# Altium schematic symbol library kmilo17pet-NSC_Amplifier.SchLib: 1665 symbols (part 28 of 44)
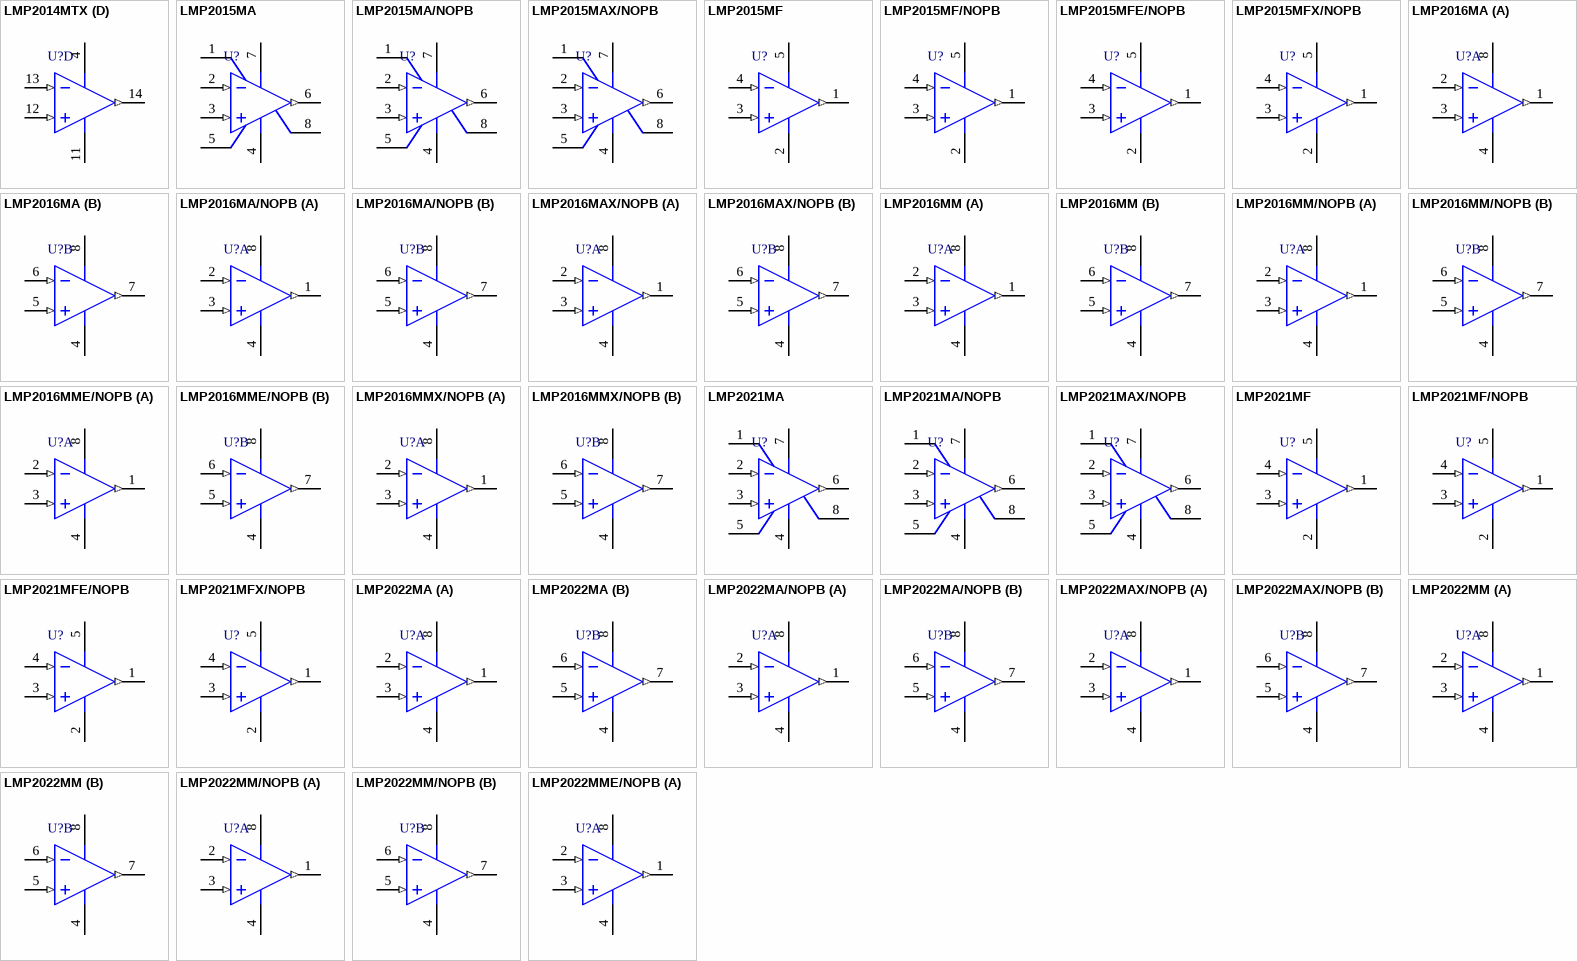
[diagram p111: symbols LMP2014MTX to LMP2022MME/NOPB]

## LMP2021MA
designator U?
Zero Drift, Low Noise, EMI Hardened Amplifier, 8-pin Narrow SOIC; PartNumber: LMP2021MA; Manufacturer: National Semiconductor; PackageTopMarking: NSZXTT*LMP20*21MA; PowerWise: N; CompType: Amplifiers; High-Reliability: Y; DatasheetVersion: Jul-2009; PackageVersion: revM, May-2009; PackageReference: M08A; PackageDescription: SOIC Narrow, 4.9 x 3.9 x 1.45mm, 8 Lead, 1.27mm Pitch; RoHS: Y; PinCount: 8; Code_JEDEC: MS-012-AA; Code_IPC: SOIC127P600-8; ComponentLink1Description: Manufacturer URL; ComponentLink1URL: http://www.national.com/; ComponentLink2Description: LMP2021 Datasheet; ComponentLink2URL: http://www.national.com/ds/LM/LMP2021.pdf; ComponentLink3Description: LMP2021 Web Page; ComponentLink3URL: http://www.national.com/pf/LM/LMP2021.html; ComponentLink4Description: M08A Package Page; ComponentLink4URL: http://www.national.com/packaging/folders/m08a.html
footprint M08A_N (SOIC, 8-Leads, Body 4.9x3.9mm, Pitch 1.27mm, IPC Medium Density)
footprint M08A_L (SOIC, 8-Leads, Body 4.9x3.9mm, Pitch 1.27mm, IPC High Density)
footprint M08A_M (SOIC, 8-Leads, Body 4.9x3.9mm, Pitch 1.27mm, IPC Low Density)
pins: 1 NC, 2 IN- (in), 3 IN+ (in), 4 V- (power), 5 NC, 6 OUT (out), 7 V+ (power), 8 NC

## LMP2021MA/NOPB
designator U?
Zero Drift, Low Noise, EMI Hardened Amplifier, 8-pin Narrow SOIC, Pb-Free; PartNumber: LMP2021MA/NOPB; Manufacturer: National Semiconductor; PackageTopMarking: NSZXTT*LMP20*21MA; PowerWise: N; CompType: Amplifiers; High-Reliability: Y; DatasheetVersion: Jul-2009; PackageVersion: revM, May-2009; PackageReference: M08A; PackageDescription: SOIC Narrow, 4.9 x 3.9 x 1.45mm, 8 Lead, 1.27mm Pitch; RoHS: Y; PinCount: 8; Code_JEDEC: MS-012-AA; Code_IPC: SOIC127P600-8; ComponentLink1Description: Manufacturer URL; ComponentLink1URL: http://www.national.com/; ComponentLink2Description: LMP2021 Datasheet; ComponentLink2URL: http://www.national.com/ds/LM/LMP2021.pdf; ComponentLink3Description: LMP2021 Web Page; ComponentLink3URL: http://www.national.com/pf/LM/LMP2021.html; ComponentLink4Description: M08A Package Page; ComponentLink4URL: http://www.national.com/packaging/folders/m08a.html
footprint M08A_N (SOIC, 8-Leads, Body 4.9x3.9mm, Pitch 1.27mm, IPC Medium Density)
footprint M08A_L (SOIC, 8-Leads, Body 4.9x3.9mm, Pitch 1.27mm, IPC High Density)
footprint M08A_M (SOIC, 8-Leads, Body 4.9x3.9mm, Pitch 1.27mm, IPC Low Density)
pins: 1 NC, 2 IN- (in), 3 IN+ (in), 4 V- (power), 5 NC, 6 OUT (out), 7 V+ (power), 8 NC

## LMP2021MAX/NOPB
designator U?
Zero Drift, Low Noise, EMI Hardened Amplifier, 8-pin Narrow SOIC, Pb-Free; PartNumber: LMP2021MAX/NOPB; Manufacturer: National Semiconductor; PackageTopMarking: NSZXTT*LMP20*21MA; PowerWise: N; CompType: Amplifiers; High-Reliability: Y; DatasheetVersion: Jul-2009; PackageVersion: revM, May-2009; PackageReference: M08A; PackageDescription: SOIC Narrow, 4.9 x 3.9 x 1.45mm, 8 Lead, 1.27mm Pitch; RoHS: Y; PinCount: 8; Code_JEDEC: MS-012-AA; Code_IPC: SOIC127P600-8; ComponentLink1Description: Manufacturer URL; ComponentLink1URL: http://www.national.com/; ComponentLink2Description: LMP2021 Datasheet; ComponentLink2URL: http://www.national.com/ds/LM/LMP2021.pdf; ComponentLink3Description: LMP2021 Web Page; ComponentLink3URL: http://www.national.com/pf/LM/LMP2021.html; ComponentLink4Description: M08A Package Page; ComponentLink4URL: http://www.national.com/packaging/folders/m08a.html
footprint M08A_N (SOIC, 8-Leads, Body 4.9x3.9mm, Pitch 1.27mm, IPC Medium Density)
footprint M08A_L (SOIC, 8-Leads, Body 4.9x3.9mm, Pitch 1.27mm, IPC High Density)
footprint M08A_M (SOIC, 8-Leads, Body 4.9x3.9mm, Pitch 1.27mm, IPC Low Density)
pins: 1 NC, 2 IN- (in), 3 IN+ (in), 4 V- (power), 5 NC, 6 OUT (out), 7 V+ (power), 8 NC

## LMP2021MF
designator U?
Zero Drift, Low Noise, EMI Hardened Amplifier, 5-pin SOT-23; PartNumber: LMP2021MF; Manufacturer: National Semiconductor; PackageTopMarking: AF5A*XTT; PowerWise: N; CompType: Amplifiers; High-Reliability: Y; DatasheetVersion: Jul-2009; PackageVersion: revD, Aug-2008; PackageReference: MF05A; PackageDescription: Molded SOT-23, .115 x .063 x .040 in Body, 5 Lead, .0375 in Pitch; RoHS: Y; PinCount: 5; ComponentLink1Description: Manufacturer URL; ComponentLink1URL: http://www.national.com/; ComponentLink2Description: LMP2021 Datasheet; ComponentLink2URL: http://www.national.com/ds/LM/LMP2021.pdf; ComponentLink3Description: LMP2021 Web Page; ComponentLink3URL: http://www.national.com/pf/LM/LMP2021.html; ComponentLink4Description: MF05A Package Page; ComponentLink4URL: http://www.national.com/packaging/folders/mf05a.html
footprint MF05A_N (SOT23, 5-Leads, Body 2.9x1.6mm, Pitch 0.95mm, Lead Span 2.8mm, IPC Medium Density)
footprint MF05A_L (SOT23, 5-Leads, Body 2.9x1.6mm, Pitch 0.95mm, Lead Span 2.8mm, IPC High Density)
footprint MF05A_M (SOT23, 5-Leads, Body 2.9x1.6mm, Pitch 0.95mm, Lead Span 2.8mm, IPC Low Density)
pins: 1 OUT (out), 2 V- (power), 3 IN+ (in), 4 IN- (in), 5 V+ (power)

## LMP2021MF/NOPB
designator U?
Zero Drift, Low Noise, EMI Hardened Amplifier, 5-pin SOT-23, Pb-Free; PartNumber: LMP2021MF/NOPB; Manufacturer: National Semiconductor; PackageTopMarking: AF5A*XTT; PowerWise: N; CompType: Amplifiers; High-Reliability: Y; DatasheetVersion: Jul-2009; PackageVersion: revD, Aug-2008; PackageReference: MF05A; PackageDescription: Molded SOT-23, .115 x .063 x .040 in Body, 5 Lead, .0375 in Pitch; RoHS: Y; PinCount: 5; ComponentLink1Description: Manufacturer URL; ComponentLink1URL: http://www.national.com/; ComponentLink2Description: LMP2021 Datasheet; ComponentLink2URL: http://www.national.com/ds/LM/LMP2021.pdf; ComponentLink3Description: LMP2021 Web Page; ComponentLink3URL: http://www.national.com/pf/LM/LMP2021.html; ComponentLink4Description: MF05A Package Page; ComponentLink4URL: http://www.national.com/packaging/folders/mf05a.html
footprint MF05A_N (SOT23, 5-Leads, Body 2.9x1.6mm, Pitch 0.95mm, Lead Span 2.8mm, IPC Medium Density)
footprint MF05A_L (SOT23, 5-Leads, Body 2.9x1.6mm, Pitch 0.95mm, Lead Span 2.8mm, IPC High Density)
footprint MF05A_M (SOT23, 5-Leads, Body 2.9x1.6mm, Pitch 0.95mm, Lead Span 2.8mm, IPC Low Density)
pins: 1 OUT (out), 2 V- (power), 3 IN+ (in), 4 IN- (in), 5 V+ (power)

## LMP2021MFE/NOPB
designator U?
Zero Drift, Low Noise, EMI Hardened Amplifier, 5-pin SOT-23, Pb-Free; PartNumber: LMP2021MFE/NOPB; Manufacturer: National Semiconductor; PackageTopMarking: AF5A*XTT; PowerWise: N; CompType: Amplifiers; High-Reliability: Y; DatasheetVersion: Jul-2009; PackageVersion: revD, Aug-2008; PackageReference: MF05A; PackageDescription: Molded SOT-23, .115 x .063 x .040 in Body, 5 Lead, .0375 in Pitch; RoHS: Y; PinCount: 5; ComponentLink1Description: Manufacturer URL; ComponentLink1URL: http://www.national.com/; ComponentLink2Description: LMP2021 Datasheet; ComponentLink2URL: http://www.national.com/ds/LM/LMP2021.pdf; ComponentLink3Description: LMP2021 Web Page; ComponentLink3URL: http://www.national.com/pf/LM/LMP2021.html; ComponentLink4Description: MF05A Package Page; ComponentLink4URL: http://www.national.com/packaging/folders/mf05a.html
footprint MF05A_N (SOT23, 5-Leads, Body 2.9x1.6mm, Pitch 0.95mm, Lead Span 2.8mm, IPC Medium Density)
footprint MF05A_L (SOT23, 5-Leads, Body 2.9x1.6mm, Pitch 0.95mm, Lead Span 2.8mm, IPC High Density)
footprint MF05A_M (SOT23, 5-Leads, Body 2.9x1.6mm, Pitch 0.95mm, Lead Span 2.8mm, IPC Low Density)
pins: 1 OUT (out), 2 V- (power), 3 IN+ (in), 4 IN- (in), 5 V+ (power)

## LMP2021MFX/NOPB
designator U?
Zero Drift, Low Noise, EMI Hardened Amplifier, 5-pin SOT-23, Pb-Free; PartNumber: LMP2021MFX/NOPB; Manufacturer: National Semiconductor; PackageTopMarking: AF5A*XTT; PowerWise: N; CompType: Amplifiers; High-Reliability: Y; DatasheetVersion: Jul-2009; PackageVersion: revD, Aug-2008; PackageReference: MF05A; PackageDescription: Molded SOT-23, .115 x .063 x .040 in Body, 5 Lead, .0375 in Pitch; RoHS: Y; PinCount: 5; ComponentLink1Description: Manufacturer URL; ComponentLink1URL: http://www.national.com/; ComponentLink2Description: LMP2021 Datasheet; ComponentLink2URL: http://www.national.com/ds/LM/LMP2021.pdf; ComponentLink3Description: LMP2021 Web Page; ComponentLink3URL: http://www.national.com/pf/LM/LMP2021.html; ComponentLink4Description: MF05A Package Page; ComponentLink4URL: http://www.national.com/packaging/folders/mf05a.html
footprint MF05A_N (SOT23, 5-Leads, Body 2.9x1.6mm, Pitch 0.95mm, Lead Span 2.8mm, IPC Medium Density)
footprint MF05A_L (SOT23, 5-Leads, Body 2.9x1.6mm, Pitch 0.95mm, Lead Span 2.8mm, IPC High Density)
footprint MF05A_M (SOT23, 5-Leads, Body 2.9x1.6mm, Pitch 0.95mm, Lead Span 2.8mm, IPC Low Density)
pins: 1 OUT (out), 2 V- (power), 3 IN+ (in), 4 IN- (in), 5 V+ (power)

## LMP2022MA
designator U?
Dual, Zero Drift, Low Noise, EMI Hardened Amplifier, 8-pin Narrow SOIC; PartNumber: LMP2022MA; Manufacturer: National Semiconductor; PackageTopMarking: NSZXTT*LMP20*22MA; PowerWise: N; CompType: Amplifiers; High-Reliability: Y; DatasheetVersion: Jul-2009; PackageVersion: revM, May-2009; PackageReference: M08A; PackageDescription: SOIC Narrow, 4.9 x 3.9 x 1.45mm, 8 Lead, 1.27mm Pitch; RoHS: Y; PinCount: 8; Code_JEDEC: MS-012-AA; Code_IPC: SOIC127P600-8; ComponentLink1Description: Manufacturer URL; ComponentLink1URL: http://www.national.com/; ComponentLink2Description: LMP2021 Datasheet; ComponentLink2URL: http://www.national.com/ds/LM/LMP2021.pdf; ComponentLink3Description: LMP2021 Web Page; ComponentLink3URL: http://www.national.com/pf/LM/LMP2022.html; ComponentLink4Description: M08A Package Page; ComponentLink4URL: http://www.national.com/packaging/folders/m08a.html
footprint M08A_N (SOIC, 8-Leads, Body 4.9x3.9mm, Pitch 1.27mm, IPC Medium Density)
footprint M08A_L (SOIC, 8-Leads, Body 4.9x3.9mm, Pitch 1.27mm, IPC High Density)
footprint M08A_M (SOIC, 8-Leads, Body 4.9x3.9mm, Pitch 1.27mm, IPC Low Density)
pins on every part: 4 V- (power), 8 V+ (power)
part A pins: 1 OUTA (out), 2 INA- (in), 3 INA+ (in)
part B pins: 5 INB+ (in), 6 INB- (in), 7 OUTB (out)

## LMP2022MA/NOPB
designator U?
Zero Drift, Low Noise, EMI Hardened Amplifier, 8-pin Narrow SOIC, Pb-Free; PartNumber: LMP2022MA/NOPB; Manufacturer: National Semiconductor; PackageTopMarking: NSZXTT*LMP20*22MA; PowerWise: N; CompType: Amplifiers; High-Reliability: Y; DatasheetVersion: Jul-2009; PackageVersion: revM, May-2009; PackageReference: M08A; PackageDescription: SOIC Narrow, 4.9 x 3.9 x 1.45mm, 8 Lead, 1.27mm Pitch; RoHS: Y; PinCount: 8; Code_JEDEC: MS-012-AA; Code_IPC: SOIC127P600-8; ComponentLink1Description: Manufacturer URL; ComponentLink1URL: http://www.national.com/; ComponentLink2Description: LMP2022 Datasheet; ComponentLink2URL: http://www.national.com/ds/LM/LMP2022.pdf; ComponentLink3Description: LMP2022 Web Page; ComponentLink3URL: http://www.national.com/pf/LM/LMP2022.html; ComponentLink4Description: M08A Package Page; ComponentLink4URL: http://www.national.com/packaging/folders/m08a.html
footprint M08A_N (SOIC, 8-Leads, Body 4.9x3.9mm, Pitch 1.27mm, IPC Medium Density)
footprint M08A_L (SOIC, 8-Leads, Body 4.9x3.9mm, Pitch 1.27mm, IPC High Density)
footprint M08A_M (SOIC, 8-Leads, Body 4.9x3.9mm, Pitch 1.27mm, IPC Low Density)
pins on every part: 4 V- (power), 8 V+ (power)
part A pins: 1 OUTA (out), 2 INA- (in), 3 INA+ (in)
part B pins: 5 INB+ (in), 6 INB- (in), 7 OUTB (out)

## LMP2022MAX/NOPB
designator U?
Zero Drift, Low Noise, EMI Hardened Amplifier, 8-pin Narrow SOIC, Pb-Free; PartNumber: LMP2022MAX/NOPB; Manufacturer: National Semiconductor; PackageTopMarking: NSZXTT*LMP20*22MA; PowerWise: N; CompType: Amplifiers; High-Reliability: Y; DatasheetVersion: Jul-2009; PackageVersion: revM, May-2009; PackageReference: M08A; PackageDescription: SOIC Narrow, 4.9 x 3.9 x 1.45mm, 8 Lead, 1.27mm Pitch; RoHS: Y; PinCount: 8; Code_JEDEC: MS-012-AA; Code_IPC: SOIC127P600-8; ComponentLink1Description: Manufacturer URL; ComponentLink1URL: http://www.national.com/; ComponentLink2Description: LMP2022 Datasheet; ComponentLink2URL: http://www.national.com/ds/LM/LMP2022.pdf; ComponentLink3Description: LMP2022 Web Page; ComponentLink3URL: http://www.national.com/pf/LM/LMP2022.html; ComponentLink4Description: M08A Package Page; ComponentLink4URL: http://www.national.com/packaging/folders/m08a.html
footprint M08A_N (SOIC, 8-Leads, Body 4.9x3.9mm, Pitch 1.27mm, IPC Medium Density)
footprint M08A_L (SOIC, 8-Leads, Body 4.9x3.9mm, Pitch 1.27mm, IPC High Density)
footprint M08A_M (SOIC, 8-Leads, Body 4.9x3.9mm, Pitch 1.27mm, IPC Low Density)
pins on every part: 4 V- (power), 8 V+ (power)
part A pins: 1 OUTA (out), 2 INA- (in), 3 INA+ (in)
part B pins: 5 INB+ (in), 6 INB- (in), 7 OUTB (out)

## LMP2022MM
designator U?
Dual, Zero Drift, Low Noise, EMI Hardened Amplifier, 8-pin Mini SOIC; PartNumber: LMP2022MM; Manufacturer: National Semiconductor; PackageTopMarking: ZXTT*AV5A; PowerWise: N; CompType: Amplifiers; High-Reliability: Y; DatasheetVersion: Jul-2009; PackageVersion: revF, Apr-2008; PackageReference: MUA08A; PackageDescription: MINI SOIC, .118 x .118 x .034in, 8 Lead, .0256in Pitch; RoHS: Y; PinCount: 8; Code_JEDEC: MO-187-AA; ComponentLink1Description: Manufacturer URL; ComponentLink1URL: http://www.national.com/; ComponentLink2Description: LMP2021 Datasheet; ComponentLink2URL: http://www.national.com/ds/LM/LMP2021.pdf; ComponentLink3Description: LMP2021 Web Page; ComponentLink3URL: http://www.national.com/pf/LM/LMP2022.html; ComponentLink4Description: MUA08A Package Page; ComponentLink4URL: http://www.national.com/packaging/folders/mua08a.html
footprint MUA08A_N (TSOP, 8-Leads, Body 3x3mm, Pitch 0.65mm, IPC Medium Density)
footprint MUA08A_L (TSOP, 8-Leads, Body 3x3mm, Pitch 0.65mm, IPC High Density)
footprint MUA08A_M (TSOP, 8-Leads, Body 3x3mm, Pitch 0.65mm, IPC Low Density)
pins on every part: 4 V- (power), 8 V+ (power)
part A pins: 1 OUTA (out), 2 INA- (in), 3 INA+ (in)
part B pins: 5 INB+ (in), 6 INB- (in), 7 OUTB (out)

## LMP2022MM/NOPB
designator U?
Zero Drift, Low Noise, EMI Hardened Amplifier, 8-pin Mini SOIC, Pb-Free; PartNumber: LMP2022MM/NOPB; Manufacturer: National Semiconductor; PackageTopMarking: ZXTT*AV5A; PowerWise: N; CompType: Amplifiers; High-Reliability: Y; DatasheetVersion: Jul-2009; PackageVersion: revF, Apr-2008; PackageReference: MUA08A; PackageDescription: MINI SOIC, .118 x .118 x .034in, 8 Lead, .0256in Pitch; RoHS: Y; PinCount: 8; Code_JEDEC: MO-187-AA; ComponentLink1Description: Manufacturer URL; ComponentLink1URL: http://www.national.com/; ComponentLink2Description: LMP2022 Datasheet; ComponentLink2URL: http://www.national.com/ds/LM/LMP2022.pdf; ComponentLink3Description: LMP2022 Web Page; ComponentLink3URL: http://www.national.com/pf/LM/LMP2022.html; ComponentLink4Description: MUA08A Package Page; ComponentLink4URL: http://www.national.com/packaging/folders/mua08a.html
footprint MUA08A_N (TSOP, 8-Leads, Body 3x3mm, Pitch 0.65mm, IPC Medium Density)
footprint MUA08A_L (TSOP, 8-Leads, Body 3x3mm, Pitch 0.65mm, IPC High Density)
footprint MUA08A_M (TSOP, 8-Leads, Body 3x3mm, Pitch 0.65mm, IPC Low Density)
pins on every part: 4 V- (power), 8 V+ (power)
part A pins: 1 OUTA (out), 2 INA- (in), 3 INA+ (in)
part B pins: 5 INB+ (in), 6 INB- (in), 7 OUTB (out)

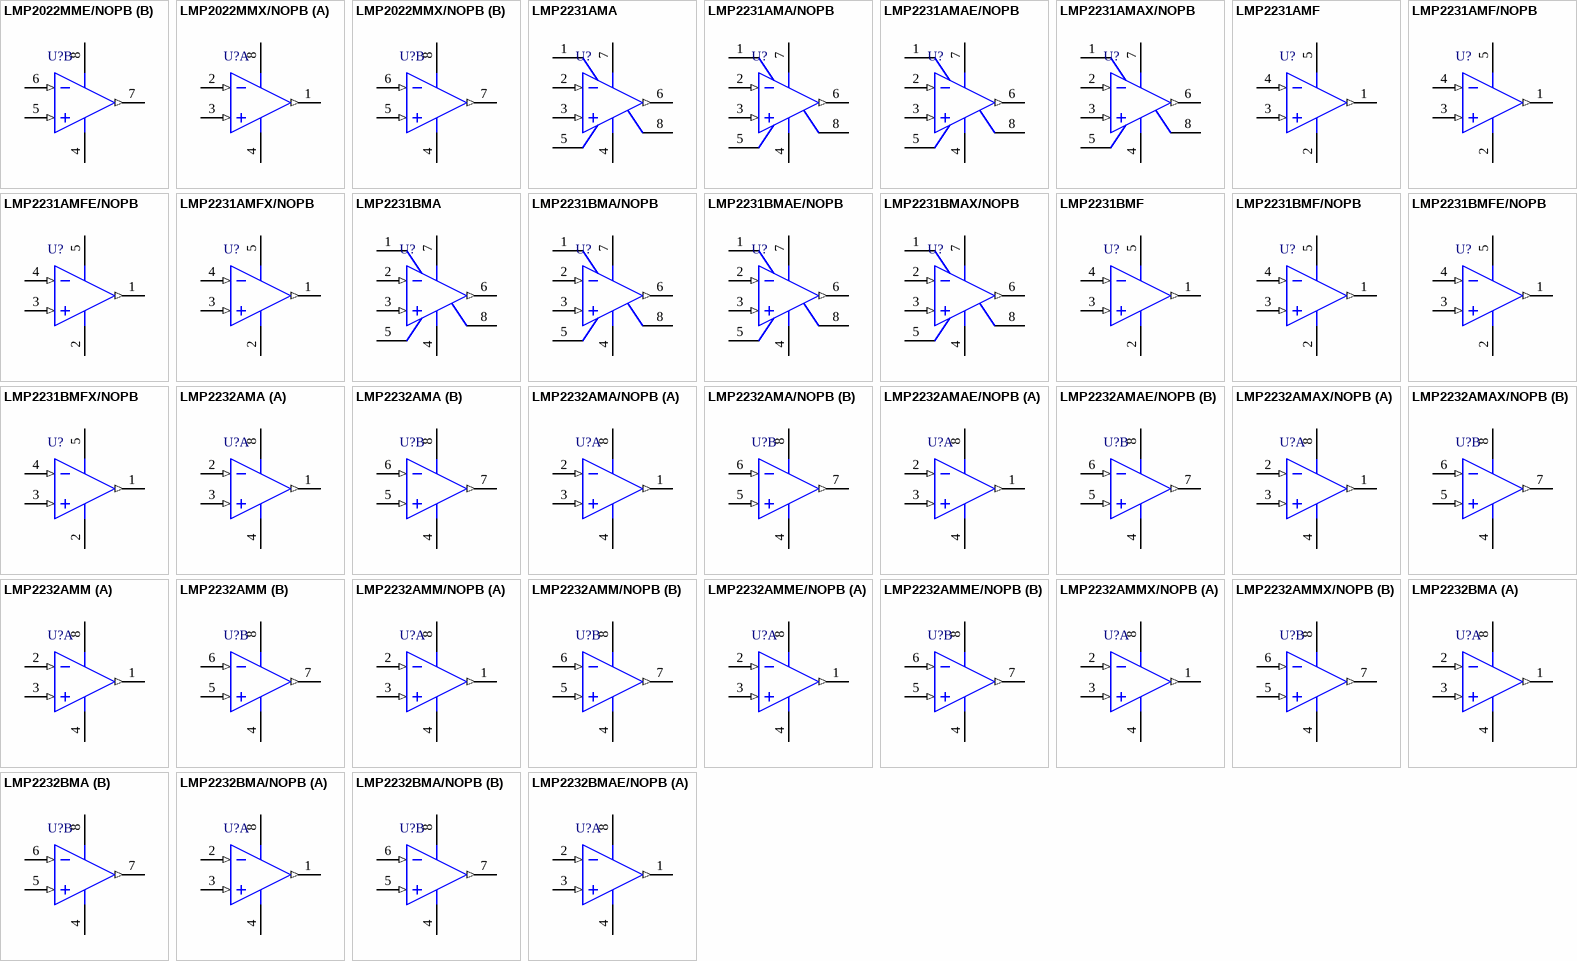
[diagram p56: symbols LMP2022MME/NOPB to LMP2232BMAE/NOPB]

## LMP2022MME/NOPB
designator U?
Zero Drift, Low Noise, EMI Hardened Amplifier, 8-pin Mini SOIC, Pb-Free; PartNumber: LMP2022MME/NOPB; Manufacturer: National Semiconductor; PackageTopMarking: ZXTT*AV5A; PowerWise: N; CompType: Amplifiers; High-Reliability: Y; DatasheetVersion: Jul-2009; PackageVersion: revF, Apr-2008; PackageReference: MUA08A; PackageDescription: MINI SOIC, .118 x .118 x .034in, 8 Lead, .0256in Pitch; RoHS: Y; PinCount: 8; Code_JEDEC: MO-187-AA; ComponentLink1Description: Manufacturer URL; ComponentLink1URL: http://www.national.com/; ComponentLink2Description: LMP2022 Datasheet; ComponentLink2URL: http://www.national.com/ds/LM/LMP2022.pdf; ComponentLink3Description: LMP2022 Web Page; ComponentLink3URL: http://www.national.com/pf/LM/LMP2022.html; ComponentLink4Description: MUA08A Package Page; ComponentLink4URL: http://www.national.com/packaging/folders/mua08a.html
footprint MUA08A_N (TSOP, 8-Leads, Body 3x3mm, Pitch 0.65mm, IPC Medium Density)
footprint MUA08A_L (TSOP, 8-Leads, Body 3x3mm, Pitch 0.65mm, IPC High Density)
footprint MUA08A_M (TSOP, 8-Leads, Body 3x3mm, Pitch 0.65mm, IPC Low Density)
pins on every part: 4 V- (power), 8 V+ (power)
part A pins: 1 OUTA (out), 2 INA- (in), 3 INA+ (in)
part B pins: 5 INB+ (in), 6 INB- (in), 7 OUTB (out)

## LMP2022MMX/NOPB
designator U?
Zero Drift, Low Noise, EMI Hardened Amplifier, 8-pin Mini SOIC, Pb-Free; PartNumber: LMP2022MMX/NOPB; Manufacturer: National Semiconductor; PackageTopMarking: ZXTT*AV5A; PowerWise: N; CompType: Amplifiers; High-Reliability: Y; DatasheetVersion: Jul-2009; PackageVersion: revF, Apr-2008; PackageReference: MUA08A; PackageDescription: MINI SOIC, .118 x .118 x .034in, 8 Lead, .0256in Pitch; RoHS: Y; PinCount: 8; Code_JEDEC: MO-187-AA; ComponentLink1Description: Manufacturer URL; ComponentLink1URL: http://www.national.com/; ComponentLink2Description: LMP2022 Datasheet; ComponentLink2URL: http://www.national.com/ds/LM/LMP2022.pdf; ComponentLink3Description: LMP2022 Web Page; ComponentLink3URL: http://www.national.com/pf/LM/LMP2022.html; ComponentLink4Description: MUA08A Package Page; ComponentLink4URL: http://www.national.com/packaging/folders/mua08a.html
footprint MUA08A_N (TSOP, 8-Leads, Body 3x3mm, Pitch 0.65mm, IPC Medium Density)
footprint MUA08A_L (TSOP, 8-Leads, Body 3x3mm, Pitch 0.65mm, IPC High Density)
footprint MUA08A_M (TSOP, 8-Leads, Body 3x3mm, Pitch 0.65mm, IPC Low Density)
pins on every part: 4 V- (power), 8 V+ (power)
part A pins: 1 OUTA (out), 2 INA- (in), 3 INA+ (in)
part B pins: 5 INB+ (in), 6 INB- (in), 7 OUTB (out)

## LMP2231AMA
designator U?
Single Micropower, 1.6V, Precision Operational Amplifier with CMOS Inputs, 8-pin Narrow SOIC; PartNumber: LMP2231AMA; Manufacturer: National Semiconductor; PackageTopMarking: NSZXTT*LMP22*31AMA; PowerWise: N; CompType: Amplifiers; High-Reliability: Y; DatasheetVersion: Dec-2008; PackageVersion: revM, May-2009; PackageReference: M08A; PackageDescription: SOIC Narrow, 4.9 x 3.9 x 1.45mm, 8 Lead, 1.27mm Pitch; RoHS: Y; PinCount: 8; Code_JEDEC: MS-012-AA; Code_IPC: SOIC127P600-8; ComponentLink1Description: Manufacturer URL; ComponentLink1URL: http://www.national.com/; ComponentLink2Description: LMP2231 Datasheet; ComponentLink2URL: http://www.national.com/ds/LM/LMP2231.pdf; ComponentLink3Description: LMP2231 Web Page; ComponentLink3URL: http://www.national.com/pf/LM/LMP2231.html; ComponentLink4Description: M08A Package Page; ComponentLink4URL: http://www.national.com/packaging/folders/m08a.html
footprint M08A_N (SOIC, 8-Leads, Body 4.9x3.9mm, Pitch 1.27mm, IPC Medium Density)
footprint M08A_L (SOIC, 8-Leads, Body 4.9x3.9mm, Pitch 1.27mm, IPC High Density)
footprint M08A_M (SOIC, 8-Leads, Body 4.9x3.9mm, Pitch 1.27mm, IPC Low Density)
pins: 1 NC, 2 IN- (in), 3 IN+ (in), 4 V- (power), 5 NC, 6 OUT (out), 7 V+ (power), 8 NC

## LMP2231AMA/NOPB
designator U?
Single Micropower, 1.6V, Precision Operational Amplifier with CMOS Inputs, 8-pin Narrow SOIC, Pb-Free; PartNumber: LMP2231AMA/NOPB; Manufacturer: National Semiconductor; PackageTopMarking: NSZXTT*LMP22*31AMA; PowerWise: N; CompType: Amplifiers; High-Reliability: Y; DatasheetVersion: Dec-2008; PackageVersion: revM, May-2009; PackageReference: M08A; PackageDescription: SOIC Narrow, 4.9 x 3.9 x 1.45mm, 8 Lead, 1.27mm Pitch; RoHS: Y; PinCount: 8; Code_JEDEC: MS-012-AA; Code_IPC: SOIC127P600-8; ComponentLink1Description: Manufacturer URL; ComponentLink1URL: http://www.national.com/; ComponentLink2Description: LMP2231 Datasheet; ComponentLink2URL: http://www.national.com/ds/LM/LMP2231.pdf; ComponentLink3Description: LMP2231 Web Page; ComponentLink3URL: http://www.national.com/pf/LM/LMP2231.html; ComponentLink4Description: M08A Package Page; ComponentLink4URL: http://www.national.com/packaging/folders/m08a.html
footprint M08A_N (SOIC, 8-Leads, Body 4.9x3.9mm, Pitch 1.27mm, IPC Medium Density)
footprint M08A_L (SOIC, 8-Leads, Body 4.9x3.9mm, Pitch 1.27mm, IPC High Density)
footprint M08A_M (SOIC, 8-Leads, Body 4.9x3.9mm, Pitch 1.27mm, IPC Low Density)
pins: 1 NC, 2 IN- (in), 3 IN+ (in), 4 V- (power), 5 NC, 6 OUT (out), 7 V+ (power), 8 NC

## LMP2231AMAE/NOPB
designator U?
Single Micropower, 1.6V, Precision Operational Amplifier with CMOS Inputs, 8-pin Narrow SOIC, Pb-Free; PartNumber: LMP2231AMAE/NOPB; Manufacturer: National Semiconductor; PackageTopMarking: NSZXTT*LMP22*31AMA; PowerWise: N; CompType: Amplifiers; High-Reliability: Y; DatasheetVersion: Dec-2008; PackageVersion: revM, May-2009; PackageReference: M08A; PackageDescription: SOIC Narrow, 4.9 x 3.9 x 1.45mm, 8 Lead, 1.27mm Pitch; RoHS: Y; PinCount: 8; Code_JEDEC: MS-012-AA; Code_IPC: SOIC127P600-8; ComponentLink1Description: Manufacturer URL; ComponentLink1URL: http://www.national.com/; ComponentLink2Description: LMP2231 Datasheet; ComponentLink2URL: http://www.national.com/ds/LM/LMP2231.pdf; ComponentLink3Description: LMP2231 Web Page; ComponentLink3URL: http://www.national.com/pf/LM/LMP2231.html; ComponentLink4Description: M08A Package Page; ComponentLink4URL: http://www.national.com/packaging/folders/m08a.html
footprint M08A_N (SOIC, 8-Leads, Body 4.9x3.9mm, Pitch 1.27mm, IPC Medium Density)
footprint M08A_L (SOIC, 8-Leads, Body 4.9x3.9mm, Pitch 1.27mm, IPC High Density)
footprint M08A_M (SOIC, 8-Leads, Body 4.9x3.9mm, Pitch 1.27mm, IPC Low Density)
pins: 1 NC, 2 IN- (in), 3 IN+ (in), 4 V- (power), 5 NC, 6 OUT (out), 7 V+ (power), 8 NC

## LMP2231AMAX/NOPB
designator U?
Single Micropower, 1.6V, Precision Operational Amplifier with CMOS Inputs, 8-pin Narrow SOIC, Pb-Free; PartNumber: LMP2231AMAX/NOPB; Manufacturer: National Semiconductor; PackageTopMarking: NSZXTT*LMP22*31AMA; PowerWise: N; CompType: Amplifiers; High-Reliability: Y; DatasheetVersion: Dec-2008; PackageVersion: revM, May-2009; PackageReference: M08A; PackageDescription: SOIC Narrow, 4.9 x 3.9 x 1.45mm, 8 Lead, 1.27mm Pitch; RoHS: Y; PinCount: 8; Code_JEDEC: MS-012-AA; Code_IPC: SOIC127P600-8; ComponentLink1Description: Manufacturer URL; ComponentLink1URL: http://www.national.com/; ComponentLink2Description: LMP2231 Datasheet; ComponentLink2URL: http://www.national.com/ds/LM/LMP2231.pdf; ComponentLink3Description: LMP2231 Web Page; ComponentLink3URL: http://www.national.com/pf/LM/LMP2231.html; ComponentLink4Description: M08A Package Page; ComponentLink4URL: http://www.national.com/packaging/folders/m08a.html
footprint M08A_N (SOIC, 8-Leads, Body 4.9x3.9mm, Pitch 1.27mm, IPC Medium Density)
footprint M08A_L (SOIC, 8-Leads, Body 4.9x3.9mm, Pitch 1.27mm, IPC High Density)
footprint M08A_M (SOIC, 8-Leads, Body 4.9x3.9mm, Pitch 1.27mm, IPC Low Density)
pins: 1 NC, 2 IN- (in), 3 IN+ (in), 4 V- (power), 5 NC, 6 OUT (out), 7 V+ (power), 8 NC

## LMP2231AMF
designator U?
Single Micropower, 1.6V, Precision Operational Amplifier with CMOS Inputs, 5-pin SOT-23; PartNumber: LMP2231AMF; Manufacturer: National Semiconductor; PackageTopMarking: AL5A*XTT; PowerWise: N; CompType: Amplifiers; High-Reliability: Y; DatasheetVersion: Dec-2008; PackageVersion: revD, Aug-2008; PackageReference: MF05A; PackageDescription: Molded SOT-23, .115 x .063 x .040 in Body, 5 Lead, .0375 in Pitch; RoHS: Y; PinCount: 5; ComponentLink1Description: Manufacturer URL; ComponentLink1URL: http://www.national.com/; ComponentLink2Description: LMP2231 Datasheet; ComponentLink2URL: http://www.national.com/ds/LM/LMP2231.pdf; ComponentLink3Description: LMP2231 Web Page; ComponentLink3URL: http://www.national.com/pf/LM/LMP2231.html; ComponentLink4Description: MF05A Package Page; ComponentLink4URL: http://www.national.com/packaging/folders/mf05a.html
footprint MF05A_N (SOT23, 5-Leads, Body 2.9x1.6mm, Pitch 0.95mm, Lead Span 2.8mm, IPC Medium Density)
footprint MF05A_L (SOT23, 5-Leads, Body 2.9x1.6mm, Pitch 0.95mm, Lead Span 2.8mm, IPC High Density)
footprint MF05A_M (SOT23, 5-Leads, Body 2.9x1.6mm, Pitch 0.95mm, Lead Span 2.8mm, IPC Low Density)
pins: 1 OUT (out), 2 V- (power), 3 IN+ (in), 4 IN- (in), 5 V+ (power)

## LMP2231AMF/NOPB
designator U?
Single Micropower, 1.6V, Precision Operational Amplifier with CMOS Inputs, 5-pin SOT-23, Pb-Free; PartNumber: LMP2231AMF/NOPB; Manufacturer: National Semiconductor; PackageTopMarking: AL5A*XTT; PowerWise: N; CompType: Amplifiers; High-Reliability: Y; DatasheetVersion: Dec-2008; PackageVersion: revD, Aug-2008; PackageReference: MF05A; PackageDescription: Molded SOT-23, .115 x .063 x .040 in Body, 5 Lead, .0375 in Pitch; RoHS: Y; PinCount: 5; ComponentLink1Description: Manufacturer URL; ComponentLink1URL: http://www.national.com/; ComponentLink2Description: LMP2231 Datasheet; ComponentLink2URL: http://www.national.com/ds/LM/LMP2231.pdf; ComponentLink3Description: LMP2231 Web Page; ComponentLink3URL: http://www.national.com/pf/LM/LMP2231.html; ComponentLink4Description: MF05A Package Page; ComponentLink4URL: http://www.national.com/packaging/folders/mf05a.html
footprint MF05A_N (SOT23, 5-Leads, Body 2.9x1.6mm, Pitch 0.95mm, Lead Span 2.8mm, IPC Medium Density)
footprint MF05A_L (SOT23, 5-Leads, Body 2.9x1.6mm, Pitch 0.95mm, Lead Span 2.8mm, IPC High Density)
footprint MF05A_M (SOT23, 5-Leads, Body 2.9x1.6mm, Pitch 0.95mm, Lead Span 2.8mm, IPC Low Density)
pins: 1 OUT (out), 2 V- (power), 3 IN+ (in), 4 IN- (in), 5 V+ (power)

## LMP2231AMFE/NOPB
designator U?
Single Micropower, 1.6V, Precision Operational Amplifier with CMOS Inputs, 5-pin SOT-23, Pb-Free; PartNumber: LMP2231AMFE/NOPB; Manufacturer: National Semiconductor; PackageTopMarking: AL5A*XTT; PowerWise: N; CompType: Amplifiers; High-Reliability: Y; DatasheetVersion: Dec-2008; PackageVersion: revD, Aug-2008; PackageReference: MF05A; PackageDescription: Molded SOT-23, .115 x .063 x .040 in Body, 5 Lead, .0375 in Pitch; RoHS: Y; PinCount: 5; ComponentLink1Description: Manufacturer URL; ComponentLink1URL: http://www.national.com/; ComponentLink2Description: LMP2231 Datasheet; ComponentLink2URL: http://www.national.com/ds/LM/LMP2231.pdf; ComponentLink3Description: LMP2231 Web Page; ComponentLink3URL: http://www.national.com/pf/LM/LMP2231.html; ComponentLink4Description: MF05A Package Page; ComponentLink4URL: http://www.national.com/packaging/folders/mf05a.html
footprint MF05A_N (SOT23, 5-Leads, Body 2.9x1.6mm, Pitch 0.95mm, Lead Span 2.8mm, IPC Medium Density)
footprint MF05A_L (SOT23, 5-Leads, Body 2.9x1.6mm, Pitch 0.95mm, Lead Span 2.8mm, IPC High Density)
footprint MF05A_M (SOT23, 5-Leads, Body 2.9x1.6mm, Pitch 0.95mm, Lead Span 2.8mm, IPC Low Density)
pins: 1 OUT (out), 2 V- (power), 3 IN+ (in), 4 IN- (in), 5 V+ (power)

## LMP2231AMFX/NOPB
designator U?
Single Micropower, 1.6V, Precision Operational Amplifier with CMOS Inputs, 5-pin SOT-23, Pb-Free; PartNumber: LMP2231AMFX/NOPB; Manufacturer: National Semiconductor; PackageTopMarking: AL5A*XTT; PowerWise: N; CompType: Amplifiers; High-Reliability: Y; DatasheetVersion: Dec-2008; PackageVersion: revD, Aug-2008; PackageReference: MF05A; PackageDescription: Molded SOT-23, .115 x .063 x .040 in Body, 5 Lead, .0375 in Pitch; RoHS: Y; PinCount: 5; ComponentLink1Description: Manufacturer URL; ComponentLink1URL: http://www.national.com/; ComponentLink2Description: LMP2231 Datasheet; ComponentLink2URL: http://www.national.com/ds/LM/LMP2231.pdf; ComponentLink3Description: LMP2231 Web Page; ComponentLink3URL: http://www.national.com/pf/LM/LMP2231.html; ComponentLink4Description: MF05A Package Page; ComponentLink4URL: http://www.national.com/packaging/folders/mf05a.html
footprint MF05A_N (SOT23, 5-Leads, Body 2.9x1.6mm, Pitch 0.95mm, Lead Span 2.8mm, IPC Medium Density)
footprint MF05A_L (SOT23, 5-Leads, Body 2.9x1.6mm, Pitch 0.95mm, Lead Span 2.8mm, IPC High Density)
footprint MF05A_M (SOT23, 5-Leads, Body 2.9x1.6mm, Pitch 0.95mm, Lead Span 2.8mm, IPC Low Density)
pins: 1 OUT (out), 2 V- (power), 3 IN+ (in), 4 IN- (in), 5 V+ (power)

## LMP2231BMA
designator U?
Single Micropower, 1.6V, Precision Operational Amplifier with CMOS Inputs, 8-pin Narrow SOIC; PartNumber: LMP2231BMA; Manufacturer: National Semiconductor; PackageTopMarking: NSZXTT*LMP22*31BMA; PowerWise: N; CompType: Amplifiers; High-Reliability: Y; DatasheetVersion: Dec-2008; PackageVersion: revM, May-2009; PackageReference: M08A; PackageDescription: SOIC Narrow, 4.9 x 3.9 x 1.45mm, 8 Lead, 1.27mm Pitch; RoHS: Y; PinCount: 8; Code_JEDEC: MS-012-AA; Code_IPC: SOIC127P600-8; ComponentLink1Description: Manufacturer URL; ComponentLink1URL: http://www.national.com/; ComponentLink2Description: LMP2231 Datasheet; ComponentLink2URL: http://www.national.com/ds/LM/LMP2231.pdf; ComponentLink3Description: LMP2231 Web Page; ComponentLink3URL: http://www.national.com/pf/LM/LMP2231.html; ComponentLink4Description: M08A Package Page; ComponentLink4URL: http://www.national.com/packaging/folders/m08a.html
footprint M08A_N (SOIC, 8-Leads, Body 4.9x3.9mm, Pitch 1.27mm, IPC Medium Density)
footprint M08A_L (SOIC, 8-Leads, Body 4.9x3.9mm, Pitch 1.27mm, IPC High Density)
footprint M08A_M (SOIC, 8-Leads, Body 4.9x3.9mm, Pitch 1.27mm, IPC Low Density)
pins: 1 NC, 2 IN- (in), 3 IN+ (in), 4 V- (power), 5 NC, 6 OUT (out), 7 V+ (power), 8 NC

## LMP2231BMA/NOPB
designator U?
Single Micropower, 1.6V, Precision Operational Amplifier with CMOS Inputs, 8-pin Narrow SOIC, Pb-Free; PartNumber: LMP2231BMA/NOPB; Manufacturer: National Semiconductor; PackageTopMarking: NSZXTT*LMP22*31BMA; PowerWise: N; CompType: Amplifiers; High-Reliability: Y; DatasheetVersion: Dec-2008; PackageVersion: revM, May-2009; PackageReference: M08A; PackageDescription: SOIC Narrow, 4.9 x 3.9 x 1.45mm, 8 Lead, 1.27mm Pitch; RoHS: Y; PinCount: 8; Code_JEDEC: MS-012-AA; Code_IPC: SOIC127P600-8; ComponentLink1Description: Manufacturer URL; ComponentLink1URL: http://www.national.com/; ComponentLink2Description: LMP2231 Datasheet; ComponentLink2URL: http://www.national.com/ds/LM/LMP2231.pdf; ComponentLink3Description: LMP2231 Web Page; ComponentLink3URL: http://www.national.com/pf/LM/LMP2231.html; ComponentLink4Description: M08A Package Page; ComponentLink4URL: http://www.national.com/packaging/folders/m08a.html
footprint M08A_N (SOIC, 8-Leads, Body 4.9x3.9mm, Pitch 1.27mm, IPC Medium Density)
footprint M08A_L (SOIC, 8-Leads, Body 4.9x3.9mm, Pitch 1.27mm, IPC High Density)
footprint M08A_M (SOIC, 8-Leads, Body 4.9x3.9mm, Pitch 1.27mm, IPC Low Density)
pins: 1 NC, 2 IN- (in), 3 IN+ (in), 4 V- (power), 5 NC, 6 OUT (out), 7 V+ (power), 8 NC

## LMP2231BMAE/NOPB
designator U?
Single Micropower, 1.6V, Precision Operational Amplifier with CMOS Inputs, 8-pin Narrow SOIC, Pb-Free; PartNumber: LMP2231BMAE/NOPB; Manufacturer: National Semiconductor; PackageTopMarking: NSZXTT*LMP22*31BMA; PowerWise: N; CompType: Amplifiers; High-Reliability: Y; DatasheetVersion: Dec-2008; PackageVersion: revM, May-2009; PackageReference: M08A; PackageDescription: SOIC Narrow, 4.9 x 3.9 x 1.45mm, 8 Lead, 1.27mm Pitch; RoHS: Y; PinCount: 8; Code_JEDEC: MS-012-AA; Code_IPC: SOIC127P600-8; ComponentLink1Description: Manufacturer URL; ComponentLink1URL: http://www.national.com/; ComponentLink2Description: LMP2231 Datasheet; ComponentLink2URL: http://www.national.com/ds/LM/LMP2231.pdf; ComponentLink3Description: LMP2231 Web Page; ComponentLink3URL: http://www.national.com/pf/LM/LMP2231.html; ComponentLink4Description: M08A Package Page; ComponentLink4URL: http://www.national.com/packaging/folders/m08a.html
footprint M08A_N (SOIC, 8-Leads, Body 4.9x3.9mm, Pitch 1.27mm, IPC Medium Density)
footprint M08A_L (SOIC, 8-Leads, Body 4.9x3.9mm, Pitch 1.27mm, IPC High Density)
footprint M08A_M (SOIC, 8-Leads, Body 4.9x3.9mm, Pitch 1.27mm, IPC Low Density)
pins: 1 NC, 2 IN- (in), 3 IN+ (in), 4 V- (power), 5 NC, 6 OUT (out), 7 V+ (power), 8 NC

## LMP2231BMAX/NOPB
designator U?
Single Micropower, 1.6V, Precision Operational Amplifier with CMOS Inputs, 8-pin Narrow SOIC, Pb-Free; PartNumber: LMP2231BMAX/NOPB; Manufacturer: National Semiconductor; PackageTopMarking: NSZXTT*LMP22*31BMA; PowerWise: N; CompType: Amplifiers; High-Reliability: Y; DatasheetVersion: Dec-2008; PackageVersion: revM, May-2009; PackageReference: M08A; PackageDescription: SOIC Narrow, 4.9 x 3.9 x 1.45mm, 8 Lead, 1.27mm Pitch; RoHS: Y; PinCount: 8; Code_JEDEC: MS-012-AA; Code_IPC: SOIC127P600-8; ComponentLink1Description: Manufacturer URL; ComponentLink1URL: http://www.national.com/; ComponentLink2Description: LMP2231 Datasheet; ComponentLink2URL: http://www.national.com/ds/LM/LMP2231.pdf; ComponentLink3Description: LMP2231 Web Page; ComponentLink3URL: http://www.national.com/pf/LM/LMP2231.html; ComponentLink4Description: M08A Package Page; ComponentLink4URL: http://www.national.com/packaging/folders/m08a.html
footprint M08A_N (SOIC, 8-Leads, Body 4.9x3.9mm, Pitch 1.27mm, IPC Medium Density)
footprint M08A_L (SOIC, 8-Leads, Body 4.9x3.9mm, Pitch 1.27mm, IPC High Density)
footprint M08A_M (SOIC, 8-Leads, Body 4.9x3.9mm, Pitch 1.27mm, IPC Low Density)
pins: 1 NC, 2 IN- (in), 3 IN+ (in), 4 V- (power), 5 NC, 6 OUT (out), 7 V+ (power), 8 NC

## LMP2231BMF
designator U?
Single Micropower, 1.6V, Precision Operational Amplifier with CMOS Inputs, 5-pin SOT-23; PartNumber: LMP2231BMF; Manufacturer: National Semiconductor; PackageTopMarking: AL5B*XTT; PowerWise: N; CompType: Amplifiers; High-Reliability: Y; DatasheetVersion: Dec-2008; PackageVersion: revD, Aug-2008; PackageReference: MF05A; PackageDescription: Molded SOT-23, .115 x .063 x .040 in Body, 5 Lead, .0375 in Pitch; RoHS: Y; PinCount: 5; ComponentLink1Description: Manufacturer URL; ComponentLink1URL: http://www.national.com/; ComponentLink2Description: LMP2231 Datasheet; ComponentLink2URL: http://www.national.com/ds/LM/LMP2231.pdf; ComponentLink3Description: LMP2231 Web Page; ComponentLink3URL: http://www.national.com/pf/LM/LMP2231.html; ComponentLink4Description: MF05A Package Page; ComponentLink4URL: http://www.national.com/packaging/folders/mf05a.html
footprint MF05A_N (SOT23, 5-Leads, Body 2.9x1.6mm, Pitch 0.95mm, Lead Span 2.8mm, IPC Medium Density)
footprint MF05A_L (SOT23, 5-Leads, Body 2.9x1.6mm, Pitch 0.95mm, Lead Span 2.8mm, IPC High Density)
footprint MF05A_M (SOT23, 5-Leads, Body 2.9x1.6mm, Pitch 0.95mm, Lead Span 2.8mm, IPC Low Density)
pins: 1 OUT (out), 2 V- (power), 3 IN+ (in), 4 IN- (in), 5 V+ (power)

## LMP2231BMF/NOPB
designator U?
Single Micropower, 1.6V, Precision Operational Amplifier with CMOS Inputs, 5-pin SOT-23, Pb-Free; PartNumber: LMP2231BMF/NOPB; Manufacturer: National Semiconductor; PackageTopMarking: AL5B*XTT; PowerWise: N; CompType: Amplifiers; High-Reliability: Y; DatasheetVersion: Dec-2008; PackageVersion: revD, Aug-2008; PackageReference: MF05A; PackageDescription: Molded SOT-23, .115 x .063 x .040 in Body, 5 Lead, .0375 in Pitch; RoHS: Y; PinCount: 5; ComponentLink1Description: Manufacturer URL; ComponentLink1URL: http://www.national.com/; ComponentLink2Description: LMP2231 Datasheet; ComponentLink2URL: http://www.national.com/ds/LM/LMP2231.pdf; ComponentLink3Description: LMP2231 Web Page; ComponentLink3URL: http://www.national.com/pf/LM/LMP2231.html; ComponentLink4Description: MF05A Package Page; ComponentLink4URL: http://www.national.com/packaging/folders/mf05a.html
footprint MF05A_N (SOT23, 5-Leads, Body 2.9x1.6mm, Pitch 0.95mm, Lead Span 2.8mm, IPC Medium Density)
footprint MF05A_L (SOT23, 5-Leads, Body 2.9x1.6mm, Pitch 0.95mm, Lead Span 2.8mm, IPC High Density)
footprint MF05A_M (SOT23, 5-Leads, Body 2.9x1.6mm, Pitch 0.95mm, Lead Span 2.8mm, IPC Low Density)
pins: 1 OUT (out), 2 V- (power), 3 IN+ (in), 4 IN- (in), 5 V+ (power)

## LMP2231BMFE/NOPB
designator U?
Single Micropower, 1.6V, Precision Operational Amplifier with CMOS Inputs, 5-pin SOT-23, Pb-Free; PartNumber: LMP2231BMFE/NOPB; Manufacturer: National Semiconductor; PackageTopMarking: AL5B*XTT; PowerWise: N; CompType: Amplifiers; High-Reliability: Y; DatasheetVersion: Dec-2008; PackageVersion: revD, Aug-2008; PackageReference: MF05A; PackageDescription: Molded SOT-23, .115 x .063 x .040 in Body, 5 Lead, .0375 in Pitch; RoHS: Y; PinCount: 5; ComponentLink1Description: Manufacturer URL; ComponentLink1URL: http://www.national.com/; ComponentLink2Description: LMP2231 Datasheet; ComponentLink2URL: http://www.national.com/ds/LM/LMP2231.pdf; ComponentLink3Description: LMP2231 Web Page; ComponentLink3URL: http://www.national.com/pf/LM/LMP2231.html; ComponentLink4Description: MF05A Package Page; ComponentLink4URL: http://www.national.com/packaging/folders/mf05a.html
footprint MF05A_N (SOT23, 5-Leads, Body 2.9x1.6mm, Pitch 0.95mm, Lead Span 2.8mm, IPC Medium Density)
footprint MF05A_L (SOT23, 5-Leads, Body 2.9x1.6mm, Pitch 0.95mm, Lead Span 2.8mm, IPC High Density)
footprint MF05A_M (SOT23, 5-Leads, Body 2.9x1.6mm, Pitch 0.95mm, Lead Span 2.8mm, IPC Low Density)
pins: 1 OUT (out), 2 V- (power), 3 IN+ (in), 4 IN- (in), 5 V+ (power)

## LMP2231BMFX/NOPB
designator U?
Single Micropower, 1.6V, Precision Operational Amplifier with CMOS Inputs, 5-pin SOT-23, Pb-Free; PartNumber: LMP2231BMFX/NOPB; Manufacturer: National Semiconductor; PackageTopMarking: AL5B*XTT; PowerWise: N; CompType: Amplifiers; High-Reliability: Y; DatasheetVersion: Dec-2008; PackageVersion: revD, Aug-2008; PackageReference: MF05A; PackageDescription: Molded SOT-23, .115 x .063 x .040 in Body, 5 Lead, .0375 in Pitch; RoHS: Y; PinCount: 5; ComponentLink1Description: Manufacturer URL; ComponentLink1URL: http://www.national.com/; ComponentLink2Description: LMP2231 Datasheet; ComponentLink2URL: http://www.national.com/ds/LM/LMP2231.pdf; ComponentLink3Description: LMP2231 Web Page; ComponentLink3URL: http://www.national.com/pf/LM/LMP2231.html; ComponentLink4Description: MF05A Package Page; ComponentLink4URL: http://www.national.com/packaging/folders/mf05a.html
footprint MF05A_N (SOT23, 5-Leads, Body 2.9x1.6mm, Pitch 0.95mm, Lead Span 2.8mm, IPC Medium Density)
footprint MF05A_L (SOT23, 5-Leads, Body 2.9x1.6mm, Pitch 0.95mm, Lead Span 2.8mm, IPC High Density)
footprint MF05A_M (SOT23, 5-Leads, Body 2.9x1.6mm, Pitch 0.95mm, Lead Span 2.8mm, IPC Low Density)
pins: 1 OUT (out), 2 V- (power), 3 IN+ (in), 4 IN- (in), 5 V+ (power)

## LMP2232AMA
designator U?
Dual, Micropower, 1.6V, Precision , Operational Amplifier with CMOS Input, 8-pin Narrow SOIC; PartNumber: LMP2232AMA; Manufacturer: National Semiconductor; PackageTopMarking: NSZXTT*LMP22*32AMA; PowerWise: Y; CompType: Amplifiers; DatasheetVersion: Dec-2008; PackageVersion: revM, May-2009; PackageReference: M08A; PackageDescription: SOIC Narrow, 4.9 x 3.9 x 1.45mm, 8 Lead, 1.27mm Pitch; RoHS: Y; PinCount: 8; High-Reliability: Y; Code_JEDEC: MS-012-AA; Code_IPC: SOIC127P600-8; ComponentLink1Description: Manufacturer URL; ComponentLink1URL: http://www.national.com/; ComponentLink2Description: LMP2232 Datasheet; ComponentLink2URL: http://www.national.com/ds/LM/LMP2232.pdf; ComponentLink3Description: LMP2232 Web Page; ComponentLink3URL: http://www.national.com/pf/LM/LMP2232.html; ComponentLink4Description: M08A Package Page; ComponentLink4URL: http://www.national.com/packaging/folders/m08a.html
footprint M08A_N (SOIC, 8-Leads, Body 4.9x3.9mm, Pitch 1.27mm, IPC Medium Density)
footprint M08A_L (SOIC, 8-Leads, Body 4.9x3.9mm, Pitch 1.27mm, IPC High Density)
footprint M08A_M (SOIC, 8-Leads, Body 4.9x3.9mm, Pitch 1.27mm, IPC Low Density)
pins on every part: 4 V- (power), 8 V+ (power)
part A pins: 1 OUTA (out), 2 INA- (in), 3 INA+ (in)
part B pins: 5 INB+ (in), 6 INB- (in), 7 OUTB (out)

## LMP2232AMA/NOPB
designator U?
Dual, Micropower, 1.6V, Precision , Operational Amplifier with CMOS Input, 8-pin Narrow SOIC, Pb-Free; PartNumber: LMP2232AMA/NOPB; Manufacturer: National Semiconductor; PackageTopMarking: NSZXTT*LMP22*32AMA; PowerWise: Y; CompType: Amplifiers; DatasheetVersion: Dec-2008; PackageVersion: revM, May-2009; PackageReference: M08A; PackageDescription: SOIC Narrow, 4.9 x 3.9 x 1.45mm, 8 Lead, 1.27mm Pitch; RoHS: Y; PinCount: 8; High-Reliability: Y; Code_JEDEC: MS-012-AA; Code_IPC: SOIC127P600-8; ComponentLink1Description: Manufacturer URL; ComponentLink1URL: http://www.national.com/; ComponentLink2Description: LMP2232 Datasheet; ComponentLink2URL: http://www.national.com/ds/LM/LMP2232.pdf; ComponentLink3Description: LMP2232 Web Page; ComponentLink3URL: http://www.national.com/pf/LM/LMP2232.html; ComponentLink4Description: M08A Package Page; ComponentLink4URL: http://www.national.com/packaging/folders/m08a.html
footprint M08A_N (SOIC, 8-Leads, Body 4.9x3.9mm, Pitch 1.27mm, IPC Medium Density)
footprint M08A_L (SOIC, 8-Leads, Body 4.9x3.9mm, Pitch 1.27mm, IPC High Density)
footprint M08A_M (SOIC, 8-Leads, Body 4.9x3.9mm, Pitch 1.27mm, IPC Low Density)
pins on every part: 4 V- (power), 8 V+ (power)
part A pins: 1 OUTA (out), 2 INA- (in), 3 INA+ (in)
part B pins: 5 INB+ (in), 6 INB- (in), 7 OUTB (out)

## LMP2232AMAE/NOPB
designator U?
Dual, Micropower, 1.6V, Precision , Operational Amplifier with CMOS Input, 8-pin Narrow SOIC, Pb-Free; PartNumber: LMP2232AMAE/NOPB; Manufacturer: National Semiconductor; PackageTopMarking: NSZXTT*LMP22*32AMA; PowerWise: Y; CompType: Amplifiers; DatasheetVersion: Dec-2008; PackageVersion: revM, May-2009; PackageReference: M08A; PackageDescription: SOIC Narrow, 4.9 x 3.9 x 1.45mm, 8 Lead, 1.27mm Pitch; RoHS: Y; PinCount: 8; High-Reliability: Y; Code_JEDEC: MS-012-AA; Code_IPC: SOIC127P600-8; ComponentLink1Description: Manufacturer URL; ComponentLink1URL: http://www.national.com/; ComponentLink2Description: LMP2232 Datasheet; ComponentLink2URL: http://www.national.com/ds/LM/LMP2232.pdf; ComponentLink3Description: LMP2232 Web Page; ComponentLink3URL: http://www.national.com/pf/LM/LMP2232.html; ComponentLink4Description: M08A Package Page; ComponentLink4URL: http://www.national.com/packaging/folders/m08a.html
footprint M08A_N (SOIC, 8-Leads, Body 4.9x3.9mm, Pitch 1.27mm, IPC Medium Density)
footprint M08A_L (SOIC, 8-Leads, Body 4.9x3.9mm, Pitch 1.27mm, IPC High Density)
footprint M08A_M (SOIC, 8-Leads, Body 4.9x3.9mm, Pitch 1.27mm, IPC Low Density)
pins on every part: 4 V- (power), 8 V+ (power)
part A pins: 1 OUTA (out), 2 INA- (in), 3 INA+ (in)
part B pins: 5 INB+ (in), 6 INB- (in), 7 OUTB (out)

## LMP2232AMAX/NOPB
designator U?
Dual, Micropower, 1.6V, Precision , Operational Amplifier with CMOS Input, 8-pin Narrow SOIC, Pb-Free; PartNumber: LMP2232AMAX/NOPB; Manufacturer: National Semiconductor; PackageTopMarking: NSZXTT*LMP22*32AMA; PowerWise: Y; CompType: Amplifiers; DatasheetVersion: Dec-2008; PackageVersion: revM, May-2009; PackageReference: M08A; PackageDescription: SOIC Narrow, 4.9 x 3.9 x 1.45mm, 8 Lead, 1.27mm Pitch; RoHS: Y; PinCount: 8; High-Reliability: Y; Code_JEDEC: MS-012-AA; Code_IPC: SOIC127P600-8; ComponentLink1Description: Manufacturer URL; ComponentLink1URL: http://www.national.com/; ComponentLink2Description: LMP2232 Datasheet; ComponentLink2URL: http://www.national.com/ds/LM/LMP2232.pdf; ComponentLink3Description: LMP2232 Web Page; ComponentLink3URL: http://www.national.com/pf/LM/LMP2232.html; ComponentLink4Description: M08A Package Page; ComponentLink4URL: http://www.national.com/packaging/folders/m08a.html
footprint M08A_N (SOIC, 8-Leads, Body 4.9x3.9mm, Pitch 1.27mm, IPC Medium Density)
footprint M08A_L (SOIC, 8-Leads, Body 4.9x3.9mm, Pitch 1.27mm, IPC High Density)
footprint M08A_M (SOIC, 8-Leads, Body 4.9x3.9mm, Pitch 1.27mm, IPC Low Density)
pins on every part: 4 V- (power), 8 V+ (power)
part A pins: 1 OUTA (out), 2 INA- (in), 3 INA+ (in)
part B pins: 5 INB+ (in), 6 INB- (in), 7 OUTB (out)

## LMP2232AMM
designator U?
Dual, Micropower, 1.6V, Precision , Operational Amplifier with CMOS Input, 8-pin Mini SOIC; PartNumber: LMP2232AMM; Manufacturer: National Semiconductor; PackageTopMarking: ZXTT*AK5A; PowerWise: Y; CompType: Amplifiers; DatasheetVersion: Dec-2008; PackageVersion: revF, Apr-2008; PackageReference: MUA08A; PackageDescription: MINI SOIC, .118 x .118 x .034in, 8 Lead, .0256in Pitch; RoHS: Y; PinCount: 8; High-Reliability: Y; Code_JEDEC: MO-187-AA; ComponentLink1Description: Manufacturer URL; ComponentLink1URL: http://www.national.com/; ComponentLink2Description: LMP2232 Datasheet; ComponentLink2URL: http://www.national.com/ds/LM/LMP2232.pdf; ComponentLink3Description: LMP2232 Web Page; ComponentLink3URL: http://www.national.com/pf/LM/LMP2232.html; ComponentLink4Description: MUA08A Package Page; ComponentLink4URL: http://www.national.com/packaging/folders/mua08a.html
footprint MUA08A_N (TSOP, 8-Leads, Body 3x3mm, Pitch 0.65mm, IPC Medium Density)
footprint MUA08A_L (TSOP, 8-Leads, Body 3x3mm, Pitch 0.65mm, IPC High Density)
footprint MUA08A_M (TSOP, 8-Leads, Body 3x3mm, Pitch 0.65mm, IPC Low Density)
pins on every part: 4 V- (power), 8 V+ (power)
part A pins: 1 OUTA (out), 2 INA- (in), 3 INA+ (in)
part B pins: 5 INB+ (in), 6 INB- (in), 7 OUTB (out)

## LMP2232AMM/NOPB
designator U?
Dual, Micropower, 1.6V, Precision , Operational Amplifier with CMOS Input, 8-pin Mini SOIC, Pb-Free; PartNumber: LMP2232AMM/NOPB; Manufacturer: National Semiconductor; PackageTopMarking: ZXTT*AK5A; PowerWise: Y; CompType: Amplifiers; DatasheetVersion: Dec-2008; PackageVersion: revF, Apr-2008; PackageReference: MUA08A; PackageDescription: MINI SOIC, .118 x .118 x .034in, 8 Lead, .0256in Pitch; RoHS: Y; PinCount: 8; High-Reliability: Y; Code_JEDEC: MO-187-AA; ComponentLink1Description: Manufacturer URL; ComponentLink1URL: http://www.national.com/; ComponentLink2Description: LMP2232 Datasheet; ComponentLink2URL: http://www.national.com/ds/LM/LMP2232.pdf; ComponentLink3Description: LMP2232 Web Page; ComponentLink3URL: http://www.national.com/pf/LM/LMP2232.html; ComponentLink4Description: MUA08A Package Page; ComponentLink4URL: http://www.national.com/packaging/folders/mua08a.html
footprint MUA08A_N (TSOP, 8-Leads, Body 3x3mm, Pitch 0.65mm, IPC Medium Density)
footprint MUA08A_L (TSOP, 8-Leads, Body 3x3mm, Pitch 0.65mm, IPC High Density)
footprint MUA08A_M (TSOP, 8-Leads, Body 3x3mm, Pitch 0.65mm, IPC Low Density)
pins on every part: 4 V- (power), 8 V+ (power)
part A pins: 1 OUTA (out), 2 INA- (in), 3 INA+ (in)
part B pins: 5 INB+ (in), 6 INB- (in), 7 OUTB (out)

## LMP2232AMME/NOPB
designator U?
Dual, Micropower, 1.6V, Precision , Operational Amplifier with CMOS Input, 8-pin Mini SOIC, Pb-Free; PartNumber: LMP2232AMME/NOPB; Manufacturer: National Semiconductor; PackageTopMarking: ZXTT*AK5A; PowerWise: Y; CompType: Amplifiers; DatasheetVersion: Dec-2008; PackageVersion: revF, Apr-2008; PackageReference: MUA08A; PackageDescription: MINI SOIC, .118 x .118 x .034in, 8 Lead, .0256in Pitch; RoHS: Y; PinCount: 8; High-Reliability: Y; Code_JEDEC: MO-187-AA; ComponentLink1Description: Manufacturer URL; ComponentLink1URL: http://www.national.com/; ComponentLink2Description: LMP2232 Datasheet; ComponentLink2URL: http://www.national.com/ds/LM/LMP2232.pdf; ComponentLink3Description: LMP2232 Web Page; ComponentLink3URL: http://www.national.com/pf/LM/LMP2232.html; ComponentLink4Description: MUA08A Package Page; ComponentLink4URL: http://www.national.com/packaging/folders/mua08a.html
footprint MUA08A_N (TSOP, 8-Leads, Body 3x3mm, Pitch 0.65mm, IPC Medium Density)
footprint MUA08A_L (TSOP, 8-Leads, Body 3x3mm, Pitch 0.65mm, IPC High Density)
footprint MUA08A_M (TSOP, 8-Leads, Body 3x3mm, Pitch 0.65mm, IPC Low Density)
pins on every part: 4 V- (power), 8 V+ (power)
part A pins: 1 OUTA (out), 2 INA- (in), 3 INA+ (in)
part B pins: 5 INB+ (in), 6 INB- (in), 7 OUTB (out)

## LMP2232AMMX/NOPB
designator U?
Dual, Micropower, 1.6V, Precision , Operational Amplifier with CMOS Input, 8-pin Mini SOIC, Pb-Free; PartNumber: LMP2232AMMX/NOPB; Manufacturer: National Semiconductor; PackageTopMarking: ZXTT*AK5A; PowerWise: Y; CompType: Amplifiers; DatasheetVersion: Dec-2008; PackageVersion: revF, Apr-2008; PackageReference: MUA08A; PackageDescription: MINI SOIC, .118 x .118 x .034in, 8 Lead, .0256in Pitch; RoHS: Y; PinCount: 8; High-Reliability: Y; Code_JEDEC: MO-187-AA; ComponentLink1Description: Manufacturer URL; ComponentLink1URL: http://www.national.com/; ComponentLink2Description: LMP2232 Datasheet; ComponentLink2URL: http://www.national.com/ds/LM/LMP2232.pdf; ComponentLink3Description: LMP2232 Web Page; ComponentLink3URL: http://www.national.com/pf/LM/LMP2232.html; ComponentLink4Description: MUA08A Package Page; ComponentLink4URL: http://www.national.com/packaging/folders/mua08a.html
footprint MUA08A_N (TSOP, 8-Leads, Body 3x3mm, Pitch 0.65mm, IPC Medium Density)
footprint MUA08A_L (TSOP, 8-Leads, Body 3x3mm, Pitch 0.65mm, IPC High Density)
footprint MUA08A_M (TSOP, 8-Leads, Body 3x3mm, Pitch 0.65mm, IPC Low Density)
pins on every part: 4 V- (power), 8 V+ (power)
part A pins: 1 OUTA (out), 2 INA- (in), 3 INA+ (in)
part B pins: 5 INB+ (in), 6 INB- (in), 7 OUTB (out)